# EAGLE library part LCD_128X64_SIL (library LCD_128x64_LED_backlight)
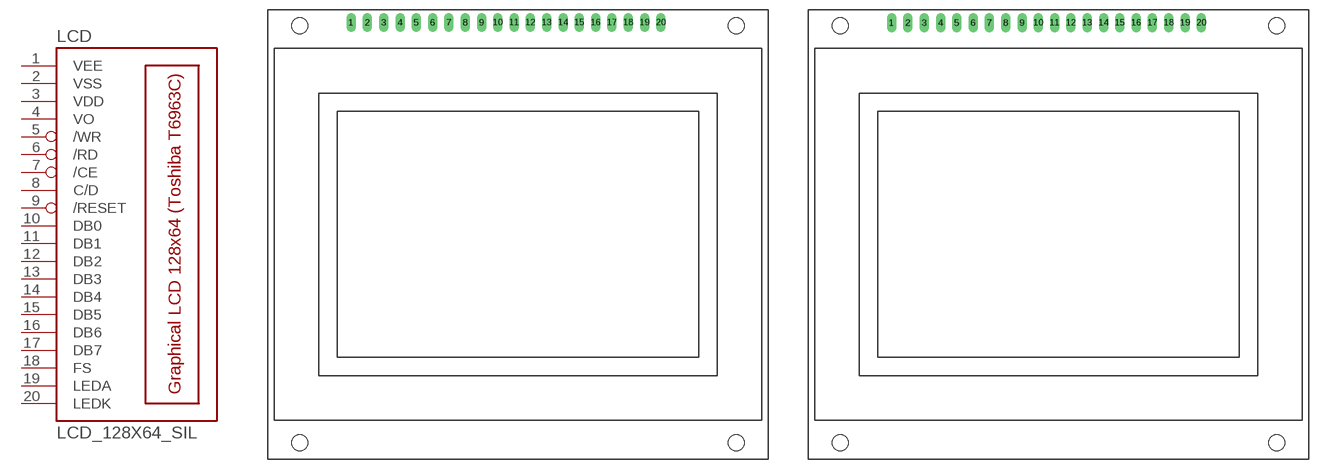
[diagram p1: symbol with the pads of ABG128064J-NO_RESTRICTS; footprints ABG128064J-NO_RESTRICTS, ABG128064J]

Designator prefix LCD

## LCD_128X64_SIL-NO_RESTRICTS  [ABG128064J-NO_RESTRICTS]
1  VEE  pwr
2  VSS  pwr
3  VDD  pwr
4  VO  pas
5  /WR  in
6  /RD  in
7  /CE  in
8  C/D  in
9  /RESET  in
10  DB0
11  DB1
12  DB2
13  DB3
14  DB4
15  DB5
16  DB6
17  DB7
18  FS  in
19  LEDA  pas
20  LEDK  pas

## LCD_128X64_SIL  [ABG128064J]
Pads as for ABG128064J-NO_RESTRICTS

## Footprint ABG128064J-NO_RESTRICTS (pad centres in mm)
drill 1 long: 1 0,0; 2 2.54,0; 3 5.08,0; 4 7.62,0; 5 10.16,0; 6 12.7,0; 7 15.24,0; 8 17.78,0; 9 20.32,0; 10 22.86,0; 11 25.4,0; 12 27.94,0; 13 30.48,0; 14 33.02,0; 15 35.56,0; 16 38.1,0; 17 40.64,0; 18 43.18,0; 19 45.72,0; 20 48.26,0
hole 2.5 at -8,-0.5
hole 2.5 at 60,-0.5
hole 2.5 at -8,-65.5
hole 2.5 at 60,-65.5

## Footprint ABG128064J (pad centres in mm)
drill 1 long: 1 0,0; 2 2.54,0; 3 5.08,0; 4 7.62,0; 5 10.16,0; 6 12.7,0; 7 15.24,0; 8 17.78,0; 9 20.32,0; 10 22.86,0; 11 25.4,0; 12 27.94,0; 13 30.48,0; 14 33.02,0; 15 35.56,0; 16 38.1,0; 17 40.64,0; 18 43.18,0; 19 45.72,0; 20 48.26,0
hole 2.5 at -8,-0.46
hole 2.5 at 60,-0.46
hole 2.5 at -8,-65.46
hole 2.5 at 60,-65.46